# Altium integrated library BBL-131-T-F.IntLib: 1 symbol
Pins are listed as number, name and electrical type; pins without a type are passive.

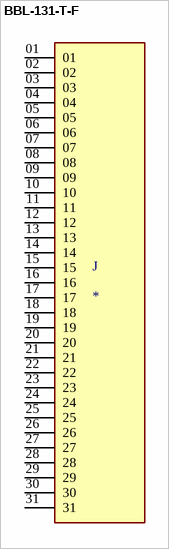
[diagram p0: symbol BBL-131-T-F]

## BBL-131-T-F
designator J
Connector Header Through Hole 31 position 0.100 (2.54mm); MP: BBL-131-T-F; MF: Samtec; Package: None; Availability: Unavailable; Value: *; Price: None; SnapEDA_Link: https://www.snapeda.com/parts/BBL-131-T-F/Samtec/view-part/3378528/?ref=snap
footprint SAMTEC_BBL-131-T-F
pins: 01, 02, 03, 04, 05, 06, 07, 08, 09, 10, 11, 12, 13, 14, 15, 16, 17, 18, 19, 20, 21, 22, 23, 24, 25, 26, 27, 28, 29, 30, 31